# EAGLE library part SIG60_DEVKIT (library SIG60_schematic)
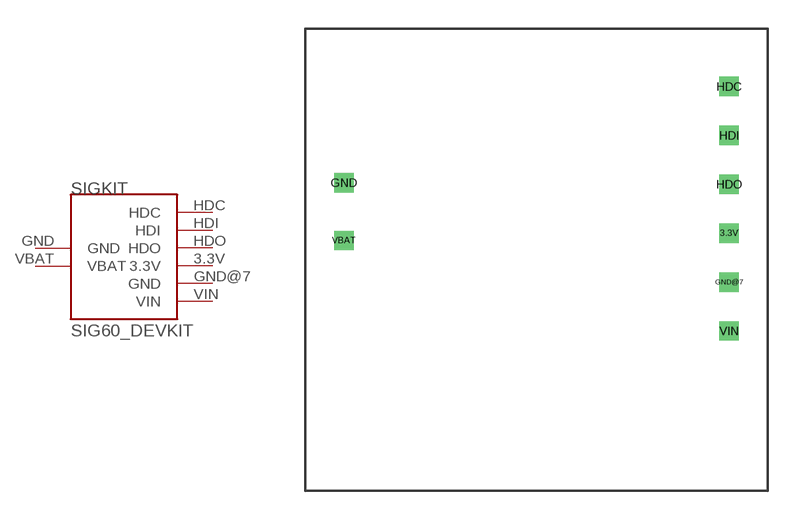
[diagram p1: symbol with the pads of SIG_DEVKIT; footprint SIG_DEVKIT]

Designator prefix SIGKIT

## SIG60_DEVKIT  [SIG_DEVKIT]
3.3V  3.3V
GND  GND
GND@7  GND
HDC  HDC
HDI  HDI
HDO  HDO
VBAT  VBAT
VIN  VIN

## Footprint SIG_DEVKIT (pad centres in mm)
drill 0.5 pad 0.61 square: 3.3V 22,-10.62; GND 2,-8; GND@7 22,-13.16; HDC 22,-3; HDI 22,-5.54; HDO 22,-8.08; VBAT 2,-11; VIN 22,-15.7